# Altium footprint library ESP32-DEVKITV1.PcbLib: 1 footprints
Each footprint in its own frame and in the unit in brackets; x right, y up, seen from the top. Pads: shape width x height; smd on the part's side, far side on the other; paste and mask are expansions set on the pad; w line width, h text height; cw(c..) or ccw(c..) is an arc to the next point about the centre after c.
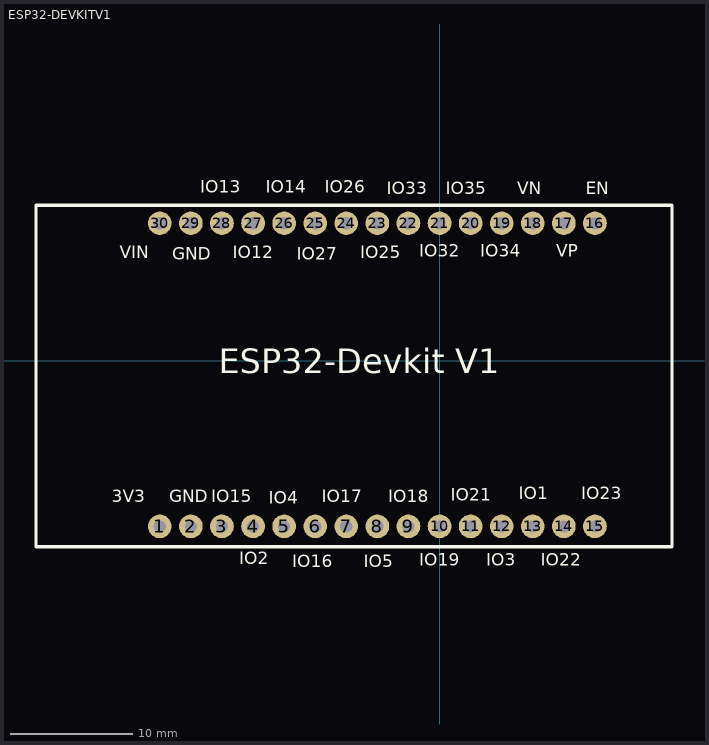
[diagram p0: the footprint, top view; thin cyan lines are the x and y axes]

## ESP32-DEVKITV1 [mm]
pads (30):
  round 1.93 hole 1: 1(-22.87,-13.54) 2(-20.33,-13.54) 3(-17.79,-13.54) 4(-15.25,-13.54) 5(-12.71,-13.54) 6(-10.17,-13.54) 7(-7.63,-13.54) 8(-5.09,-13.54) 9(-2.55,-13.54) 10(-0.01,-13.54) 11(2.53,-13.54) 12(5.07,-13.54) 13(7.61,-13.54) 14(10.15,-13.54) 15(12.69,-13.54) 16(12.69,11.23) 17(10.15,11.23) 18(7.61,11.23) 19(5.07,11.23) 20(2.53,11.23) 21(-0.01,11.23) 22(-2.55,11.23) 23(-5.09,11.23) 24(-7.63,11.23) 25(-10.17,11.23) 26(-12.71,11.23) 27(-15.25,11.23) 28(-17.79,11.23) 29(-20.33,11.23) 30(-22.87,11.23)
Top Overlay:
  lines w0.254: -33,-15.2 -33,12.7 19,12.7 19,-15.2 -33,-15.2
  text "ESP32-Devkit V1" at -18.034,-1.016 h2
  text "EN" at 11.938,13.589 h1
  text "VP" at 9.525,8.509 h1
  text "VN" at 6.35,13.589 h1
  text "IO34" at 3.302,8.509 h1
  text "IO35" at 0.508,13.589 h1
  text "IO32" at -1.651,8.509 h1
  text "IO33" at -4.318,13.589 h1
  text "IO25" at -6.477,8.382 h1
  text "IO26" at -9.398,13.716 h1
  text "IO27" at -11.684,8.255 h1
  text "IO14" at -14.224,13.716 h1
  text "IO12" at -16.891,8.382 h1
  text "IO13" at -19.558,13.716 h1
  text "GND" at -21.844,8.255 h1
  text "VIN" at -26.162,8.382 h1
  text "IO23" at 11.557,-11.303 h1
  text "IO22" at 8.255,-16.764 h1
  text "IO1" at 6.477,-11.303 h1
  text "IO3" at 3.81,-16.764 h1
  text "IO21" at 0.889,-11.43 h1
  text "IO19" at -1.651,-16.764 h1
  text "IO18" at -4.191,-11.557 h1
  text "IO5" at -6.223,-16.891 h1
  text "IO17" at -9.652,-11.557 h1
  text "IO16" at -12.065,-16.891 h1
  text "IO4" at -13.97,-11.684 h1
  text "IO2" at -16.383,-16.637 h1
  text "IO15" at -18.669,-11.557 h1
  text "GND" at -22.098,-11.557 h1
  text "3V3" at -26.797,-11.557 h1
Mechanical 13:
  text "ESP32-DEVKITV1" at -1.651,-7.366 h2
3D body "User Library-PBS-3.STEP": height 8.65, standoff -2.85, extent -24.14,9.906 -16.52,12.446
3D body "ESP-WROOM32.STEP": height 15.6, standoff 3.2, extent -32.577,-15.24 18.353,13.26
3D body "User Library-PBS-3.STEP": height 8.65, standoff -2.85, extent -16.51,9.906 -8.89,12.446
3D body "User Library-PBS-3.STEP": height 8.65, standoff -2.85, extent -8.89,9.906 -1.27,12.446
3D body "User Library-PBS-3.STEP": height 8.65, standoff -2.85, extent -1.28,9.906 6.34,12.446
3D body "User Library-PBS-3.STEP": height 8.65, standoff -2.85, extent 6.34,9.906 13.96,12.446
3D body "User Library-PBS-3.STEP": height 8.65, standoff -2.85, extent -24.13,-14.859 -16.51,-12.319
3D body "User Library-PBS-3.STEP": height 8.65, standoff -2.85, extent -16.52,-14.859 -8.9,-12.319
3D body "User Library-PBS-3.STEP": height 8.65, standoff -2.85, extent -8.9,-14.859 -1.28,-12.319
3D body "User Library-PBS-3.STEP": height 8.65, standoff -2.85, extent -1.27,-14.859 6.35,-12.319
3D body "User Library-PBS-3.STEP": height 8.65, standoff -2.85, extent 6.34,-14.859 13.96,-12.319